# Altium schematic symbol library SN74LVC1G66.SchLib: 1 symbol
Pins are listed as number, name and electrical type; pins without a type are passive.

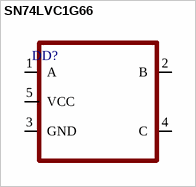
[diagram p0: symbol SN74LVC1G66]

## SN74LVC1G66
designator DD?
pins: 1 A, 2 B, 3 GND, 4 C, 5 VCC